# EAGLE library part X1205* (library xicor)
2-Wire RTC Real Time Clock/Calendar
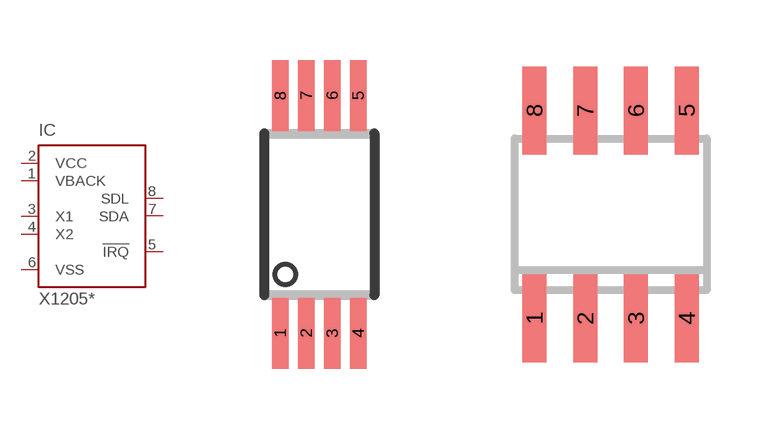
[diagram p0: symbol with the pads of TSSOP-8; footprints TSSOP-8, SO-08]

Designator prefix IC

## X1205V8 (OC_FARNELL: unknown; OC_NEWARK: unknown), X1205IV8 (OC_FARNELL: unknown; OC_NEWARK: unknown)  [TSSOP-8]
1  VBACK  in
2  VCC  pwr
3  X1  in
4  X2  out
5  !IRQ  out
6  VSS  pwr
7  SDA
8  SDL  in

## X1205S8 (OC_FARNELL: unknown; OC_NEWARK: unknown), X1205IS8 (OC_FARNELL: unknown; OC_NEWARK: unknown)  [SO-08]
1  X1  in
2  X2  out
3  !IRQ  out
4  VSS  pwr
5  SDA
6  SDL  in
7  VBACK  in
8  VCC  pwr

## Footprint TSSOP-8 (pad centres in mm)
8-Pin TSSOP Source: www.xicor.com .. x1205.pdf
smd 0.42 x 1.78: 1 -0.975,-2.975; 2 -0.325,-2.975; 3 0.325,-2.975; 4 0.975,-2.975; 5 0.975,2.975; 6 0.325,2.975; 7 -0.325,2.975; 8 -0.975,2.975

## Footprint SO-08 (pad centres in mm)
Small Outline Integrated Circuit
smd 0.6 x 2.2: 1 -1.905,-2.6; 2 -0.635,-2.6; 3 0.635,-2.6; 4 1.905,-2.6; 5 1.905,2.6; 6 0.635,2.6; 7 -0.635,2.6; 8 -1.905,2.6